# Altium footprint library 101-0000212_UBERCLOCK_CRYSTAL_FILTER.PcbLib: 4 footprints
Each footprint in its own frame and in the unit in brackets; x right, y up, seen from the top. Pads: shape width x height; smd on the part's side, far side on the other; paste and mask are expansions set on the pad; w line width, h text height; cw(c..) or ccw(c..) is an arc to the next point about the centre after c.
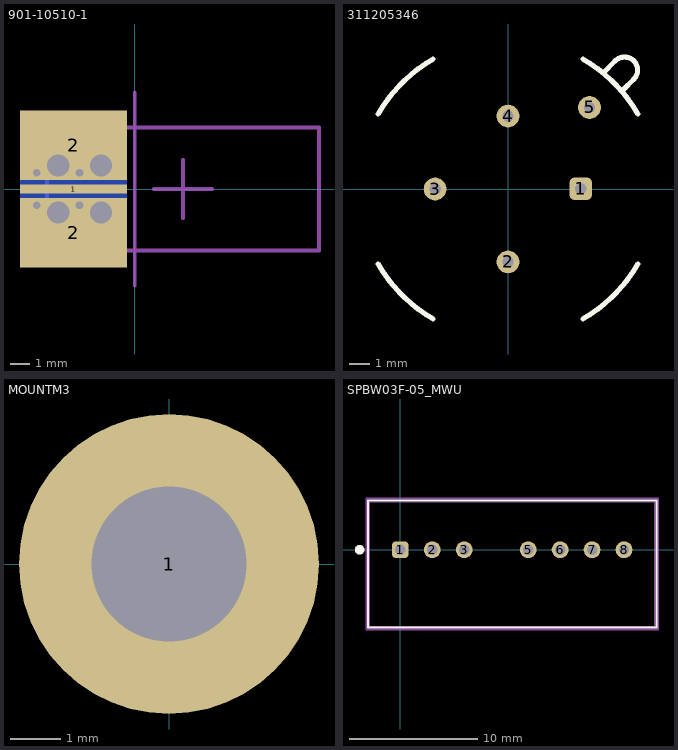
[diagram p0: the footprints below, top view; thin cyan lines are the x and y axes]

## 901-10510-1 [mm] "SMA Board Edge Connector Female"
height 3.35
pads (3):
  rect 5.54x0.483 smd mask-0.241: 1(-3.17,0)
  rect 5.54x3.61 smd mask+0.05: 2(-3.17,-2.26) 2(-3.17,2.26)
via -5.065,-0.84 diameter 0.77 hole 0.4
via -1.75,-1.22 diameter 1.5 hole 1.14
via -3.96,-1.22 diameter 1.5 hole 1.14
via -2.855,-0.84 diameter 0.77 hole 0.4
via -5.065,0.84 diameter 0.77 hole 0.4
via -1.75,1.22 diameter 1.5 hole 1.14
via -3.96,1.22 diameter 1.5 hole 1.14
via -2.855,0.84 diameter 0.77 hole 0.4
Bottom Layer:
  rectangle: -5.94,-2.54 -0.4,2.54
Top Solder:
  rectangle: -5.99,-3.675 0,-0.3
  rectangle: -5.99,0.3 0,3.925
  rectangle: -1.1,-4.115 0,4.115
  rectangle: -5.99,-4.115 -1.3,4.115
Bottom Solder:
  rectangle: -5.99,-2.55 0,2.55
Mechanical 15:
  lines w0.2: 0,-5 0,5 ; 0.99,0 3.99,0 ; 2.49,-1.5 2.49,1.5 ; -4.55,-3.175 9.53,-3.175 9.53,3.175 -4.55,3.175 -4.55,-3.175
3D body "901-10510-1.stp": height 3.3, standoff -3.05, extent -4.55,-3.175 9.53,3.175

## 311205346 [mil]
pads (5):
  rrect50% 44x44 hole 22: 1(140.73,0.4)
  round 44 hole 22: 2(0,-141) 3(-141,0) 4(0,141) 5(157.61,157.61)
Top Overlay:
  lines w10: -251.15,-145 ccw(c0,0) -145,-251.15 ; -251.15,145 cw(c0,0) -145,251.15 ; 145,-251.15 ccw(c0,0) 251.15,-145 ; 145,251.15 cw(c0,0) 251.15,145 ; 185,225 207.5,247.8 cw(c225.3,230) 243.11,247.8 cw(c225.3,230) 243.11,212.2 223.11,192.2
3D body "TO-8 v6.step": height 312.48, standoff -98.43, extent -290.3,-289.97 289.22,289.51

## MOUNTM3 [mm]
pads (1):
  round 6 hole 3.1 paste-2539.97 mask-0.064: 1(0,0)

## SPBW03F-05_MWU [mil]
height 363.78
pads (7):
  rrect50% 52x52 hole 32 paste-99999 mask+0: 1(0,0)
  round 52 hole 32 paste-99999 mask+0: 2(98.43,0) 3(196.85,0) 5(393.7,0) 6(492.13,0) 7(590.55,0) 8(688.98,0)
Top Overlay:
  circle w19.68: c-125,0 r5
  lines w6: -99.51,-239.85 -99.51,152.15 788.49,152.15 788.49,-239.85 -99.51,-239.85
Mechanical 13:
  lines w1: -94.51,-234.85 -94.51,147.15 783.49,147.15 783.49,-234.85 -94.51,-234.85
Mechanical 15:
  lines w6: -104.51,-244.85 793.49,-244.85 793.49,157.15 -104.51,157.15 -104.51,-244.85
3D body "SPBW03F-05.step": height 437.01, standoff -161.42, extent -85.13,-224.1 773.13,138.1